# Altium schematic symbol library BlockDiagramParts.SchLib: 1 symbol
Pins are listed as number, name and electrical type; pins without a type are passive.

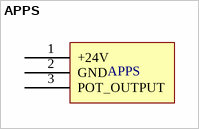
[diagram p0: symbol APPS]

## APPS
designator APPS
Accelerator Position Pedal System
pins: 1 +24V, 2 GND, 3 POT_OUTPUT